# Altium footprint library WR-PHD_Pin Header.PcbLib: 232 footprints (part 7 of 15)
Each footprint in its own frame and in the unit in brackets; x right, y up, seen from the top. Pads: shape width x height; smd on the part's side, far side on the other; paste and mask are expansions set on the pad; w line width, h text height; cw(c..) or ccw(c..) is an arc to the next point about the centre after c.
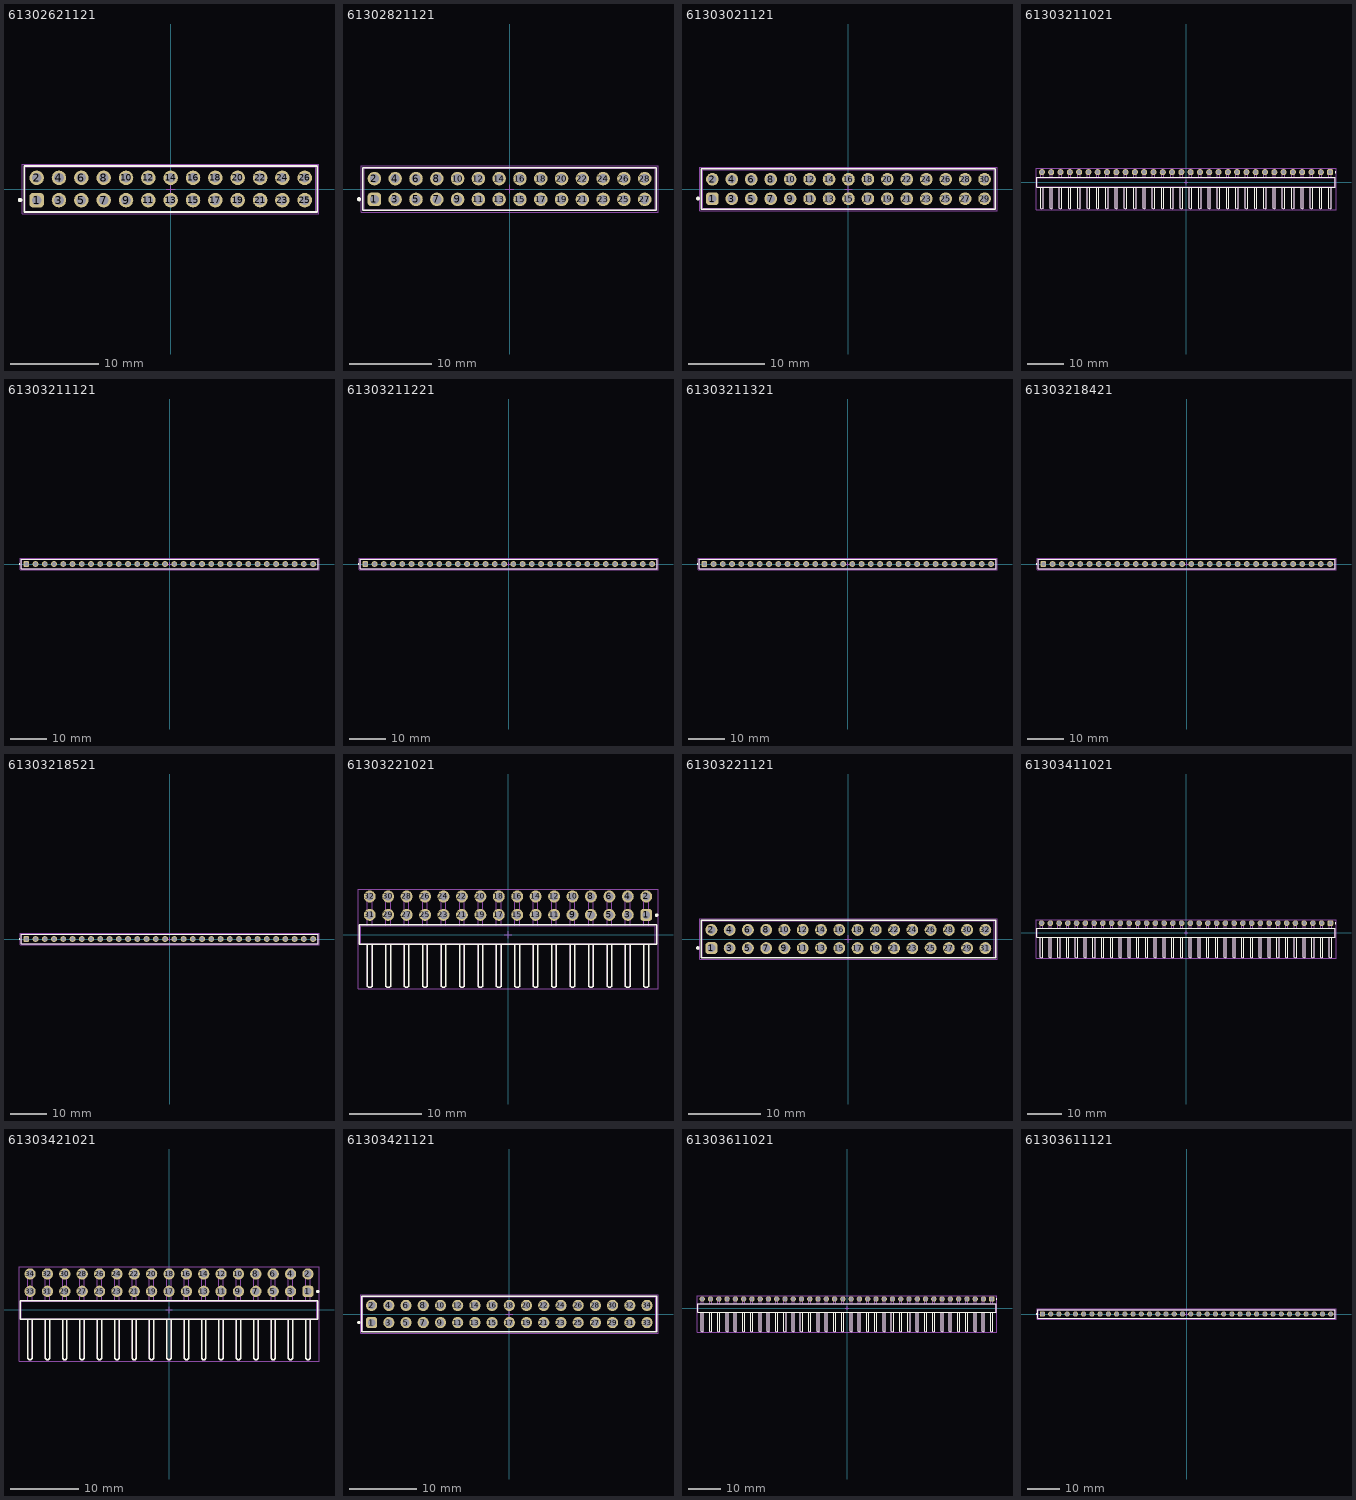
[diagram p6: the footprints below, top view; thin cyan lines are the x and y axes]

## 61302621121 [mm] "Pin Header, pitch 2.54 mm, THT, Vertical, dual row, 26p"
height 8.54
pads (26):
  rrect50% 1.65x1.65 hole 1.1: 1(-15.24,-1.27)
  round 1.65 hole 1.1: 2(-15.24,1.27) 3(-12.7,-1.27) 4(-12.7,1.27) 5(-10.16,-1.27) 6(-10.16,1.27) 7(-7.62,-1.27) 8(-7.62,1.27) 9(-5.08,-1.27) 10(-5.08,1.27) 11(-2.54,-1.27) 12(-2.54,1.27) 13(0,-1.27) 14(0,1.27) 15(2.54,-1.27) 16(2.54,1.27) 17(5.08,-1.27) 18(5.08,1.27) 19(7.62,-1.27) 20(7.62,1.27) 21(10.16,-1.27) 22(10.16,1.27) 23(12.7,-1.27) 24(12.7,1.27) 25(15.24,-1.27) 26(15.24,1.27)
Top Overlay:
  circle w0.25: c-17.12,-1.25 r0.125
  lines w0.2: -16.66,-2.615 16.66,-2.615 16.66,2.615 -16.66,2.615 -16.66,-2.615
Top Designator:
  text ".Designator" at -7.498,-0.5 h1.5
Top Component Outline:
  lines w0.1: -16.51,-2.54 16.51,-2.54 16.51,2.54 -16.51,2.54 -16.51,-2.54
Top Courtyard:
  lines w0.05: -16.86,-2.815 -16.86,2.815 16.86,2.815 16.86,-2.815 -16.86,-2.815
Top Component Center:
  lines w0.05: -0.5,0 0.5,0 ; 0,-0.5 0,0.5
3D body "61302621121.stp": height 8.59, standoff -2.95, extent -16.51,-2.54 16.51,2.54

## 61302821121 [mm] "Pin Header, pitch 2.54 mm, THT, Vertical, dual row, 28p"
height 8.54
pads (28):
  rrect50% 1.65x1.65 hole 1.1: 1(-16.51,-1.27)
  round 1.65 hole 1.1: 2(-16.51,1.27) 3(-13.97,-1.27) 4(-13.97,1.27) 5(-11.43,-1.27) 6(-11.43,1.27) 7(-8.89,-1.27) 8(-8.89,1.27) 9(-6.35,-1.27) 10(-6.35,1.27) 11(-3.81,-1.27) 12(-3.81,1.27) 13(-1.27,-1.27) 14(-1.27,1.27) 15(1.27,-1.27) 16(1.27,1.27) 17(3.81,-1.27) 18(3.81,1.27) 19(6.35,-1.27) 20(6.35,1.27) 21(8.89,-1.27) 22(8.89,1.27) 23(11.43,-1.27) 24(11.43,1.27) 25(13.97,-1.27) 26(13.97,1.27) 27(16.51,-1.27) 28(16.51,1.27)
Top Overlay:
  circle w0.25: c-18.39,-1.25 r0.125
  lines w0.2: -17.93,-2.615 -17.93,2.615 17.93,2.615 17.93,-2.615 -17.93,-2.615
Top Designator:
  text ".Designator" at -7.498,-0.5 h1.5
Top Component Outline:
  lines w0.1: -17.78,-2.54 -17.78,2.54 17.78,2.54 17.78,-2.54 -17.78,-2.54
Top Courtyard:
  lines w0.05: -18.13,-2.815 18.13,-2.815 18.13,2.815 -18.13,2.815 -18.13,-2.815
Top Component Center:
  lines w0.05: -0.5,0 0.5,0 ; 0,-0.5 0,0.5
3D body "61302821121.stp": height 8.59, standoff -2.95, extent -17.78,-2.54 17.78,2.54

## 61303021121 [mm] "Pin Header, pitch 2.54 mm, THT, Vertical, dual row, 30p"
height 8.54
pads (30):
  rrect50% 1.65x1.65 hole 1.1: 1(-17.78,-1.27)
  round 1.65 hole 1.1: 2(-17.78,1.27) 3(-15.24,-1.27) 4(-15.24,1.27) 5(-12.7,-1.27) 6(-12.7,1.27) 7(-10.16,-1.27) 8(-10.16,1.27) 9(-7.62,-1.27) 10(-7.62,1.27) 11(-5.08,-1.27) 12(-5.08,1.27) 13(-2.54,-1.27) 14(-2.54,1.27) 15(0,-1.27) 16(0,1.27) 17(2.54,-1.27) 18(2.54,1.27) 19(5.08,-1.27) 20(5.08,1.27) 21(7.62,-1.27) 22(7.62,1.27) 23(10.16,-1.27) 24(10.16,1.27) 25(12.7,-1.27) 26(12.7,1.27) 27(15.24,-1.27) 28(15.24,1.27) 29(17.78,-1.27) 30(17.78,1.27)
Top Overlay:
  circle w0.25: c-19.66,-1.25 r0.125
  lines w0.2: -19.2,-2.615 19.2,-2.615 19.2,2.615 -19.2,2.615 -19.2,-2.615
Top Designator:
  text ".Designator" at -7.498,-0.5 h1.5
Top Component Outline:
  lines w0.1: -19.05,-2.54 19.05,-2.54 19.05,2.54 -19.05,2.54 -19.05,-2.54
Top Courtyard:
  lines w0.05: -19.4,-2.815 -19.4,2.815 19.4,2.815 19.4,-2.815 -19.4,-2.815
Top Component Center:
  lines w0.05: -0.5,0 0.5,0 ; 0,-0.5 0,0.5
3D body "61303021121.stp": height 8.59, standoff -2.95, extent -19.05,-2.54 19.05,2.54

## 61303211021 [mm] "Pin Header, pitch 2.54 mm, THT, Angled, single row, 32p"
height 2.54
pads (32):
  rrect50% 1.65x1.65 hole 1.1: 1(39.37,2.77)
  round 1.65 hole 1.1: 2(36.83,2.77) 3(34.29,2.77) 4(31.75,2.77) 5(29.21,2.77) 6(26.67,2.77) 7(24.13,2.77) 8(21.59,2.77) 9(19.05,2.77) 10(16.51,2.77) 11(13.97,2.77) 12(11.43,2.77) 13(8.89,2.77) 14(6.35,2.77) 15(3.81,2.77) 16(1.27,2.77) 17(-1.27,2.77) 18(-3.81,2.77) 19(-6.35,2.77) 20(-8.89,2.77) 21(-11.43,2.77) 22(-13.97,2.77) 23(-16.51,2.77) 24(-19.05,2.77) 25(-21.59,2.77) 26(-24.13,2.77) 27(-26.67,2.77) 28(-29.21,2.77) 29(-31.75,2.77) 30(-34.29,2.77) 31(-36.83,2.77) 32(-39.37,2.77)
Top Overlay:
  circle w0.25: c40.85,2.75 r0.125
  lines w0.2: -39.69,-1.345 -39.69,-7.07 -39.37,-7.27 -39.05,-7.07 -39.05,-1.345 ; -37.15,-1.345 -37.15,-7.07 -36.83,-7.27 -36.51,-7.07 -36.51,-1.345 ; -34.61,-1.345 -34.61,-7.07 -34.29,-7.27 -33.97,-7.07 -33.97,-1.345 ; -32.07,-1.345 -32.07,-7.07 -31.75,-7.27 -31.43,-7.07 -31.43,-1.345 ; -29.53,-1.345 -29.53,-7.07 -29.21,-7.27 -28.89,-7.07 -28.89,-1.345 ; -26.99,-1.345 -26.99,-7.07 -26.67,-7.27 -26.35,-7.07 -26.35,-1.345 ; -24.45,-1.345 -24.45,-7.07 -24.13,-7.27 -23.81,-7.07 -23.81,-1.345 ; -21.91,-1.345 -21.91,-7.07 -21.59,-7.27 -21.27,-7.07 -21.27,-1.345 ; -19.37,-1.345 -19.37,-7.07 -19.05,-7.27 -18.73,-7.07 -18.73,-1.345 ; -16.83,-1.345 -16.83,-7.07 -16.51,-7.27 -16.19,-7.07 -16.19,-1.345 ; -14.29,-1.345 -14.29,-7.07 -13.97,-7.27 -13.65,-7.07 -13.65,-1.345 ; -11.75,-1.345 -11.75,-7.07 -11.43,-7.27 -11.11,-7.07 -11.11,-1.345 ; -9.21,-1.345 -9.21,-7.07 -8.89,-7.27 -8.57,-7.07 -8.57,-1.345 ; -6.67,-1.345 -6.67,-7.07 -6.35,-7.27 -6.03,-7.07 -6.03,-1.345 ; -4.13,-1.345 -4.13,-7.07 -3.81,-7.27 -3.49,-7.07 -3.49,-1.345 ; -1.59,-1.345 -1.59,-7.07 -1.27,-7.27 -0.95,-7.07 -0.95,-1.345 ; 0.95,-1.345 0.95,-7.07 1.27,-7.27 1.59,-7.07 1.59,-1.345 ; 3.49,-1.345 3.49,-7.07 3.81,-7.27 4.13,-7.07 4.13,-1.345 ; 6.03,-1.345 6.03,-7.07 6.35,-7.27 6.67,-7.07 6.67,-1.345 ; 8.57,-1.345 8.57,-7.07 8.89,-7.27 9.21,-7.07 9.21,-1.345 ; 11.11,-1.345 11.11,-7.07 11.43,-7.27 11.75,-7.07 11.75,-1.345 ; 13.65,-1.345 13.65,-7.07 13.97,-7.27 14.29,-7.07 14.29,-1.345 ; 16.19,-1.345 16.19,-7.07 16.51,-7.27 16.83,-7.07 16.83,-1.345 ; 18.73,-1.345 18.73,-7.07 19.05,-7.27 19.37,-7.07 19.37,-1.345 ; 21.27,-1.345 21.27,-7.07 21.59,-7.27 21.91,-7.07 21.91,-1.345 ; 23.81,-1.345 23.81,-7.07 24.13,-7.27 24.45,-7.07 24.45,-1.345 ; 26.35,-1.345 26.35,-7.07 26.67,-7.27 26.99,-7.07 26.99,-1.345 ; 28.89,-1.345 28.89,-7.07 29.21,-7.27 29.53,-7.07 29.53,-1.345 ; 31.43,-1.345 31.43,-7.07 31.75,-7.27 32.07,-7.07 32.07,-1.345 ; 33.97,-1.345 33.97,-7.07 34.29,-7.27 34.61,-7.07 34.61,-1.345 ; 36.51,-1.345 36.51,-7.07 36.83,-7.27 37.15,-7.07 37.15,-1.345 ; 39.05,-1.345 39.05,-7.07 39.37,-7.27 39.69,-7.07 39.69,-1.345 ; -40.79,-1.345 40.79,-1.345 40.79,1.345 -40.79,1.345 -40.79,-1.345
Top Designator:
  text ".Designator" at -7.498,-0.5 h1.5
Top Component Outline:
  drawing of 228 lines, arcs and shapes, not listed
Top Courtyard:
  lines w0.05: -40.99,-7.47 40.99,-7.47 40.99,3.795 -40.99,3.795 -40.99,-7.47
Top Component Center:
  lines w0.05: -0.5,0 0.5,0 ; 0,-0.5 0,0.5
3D body "61303211021.stp": height 2.58, standoff -2.96, extent -40.64,-7.27 40.64,3.09

## 61303211121 [mm] "Pin Header, pitch 2.54 mm, THT, Vertical, single row, 32p"
height 8.54
pads (32):
  rrect50% 1.6x1.6 hole 1.1: 1(-39.37,0)
  round 1.6 hole 1.1: 2(-36.83,0) 3(-34.29,0) 4(-31.75,0) 5(-29.21,0) 6(-26.67,0) 7(-24.13,0) 8(-21.59,0) 9(-19.05,0) 10(-16.51,0) 11(-13.97,0) 12(-11.43,0) 13(-8.89,0) 14(-6.35,0) 15(-3.81,0) 16(-1.27,0) 17(1.27,0) 18(3.81,0) 19(6.35,0) 20(8.89,0) 21(11.43,0) 22(13.97,0) 23(16.51,0) 24(19.05,0) 25(21.59,0) 26(24.13,0) 27(26.67,0) 28(29.21,0) 29(31.75,0) 30(34.29,0) 31(36.83,0) 32(39.37,0)
Top Overlay:
  circle w0.25: c-41.24,0 r0.125
  lines w0.2: -40.79,-1.345 40.79,-1.345 40.79,1.345 -40.79,1.345 -40.79,-1.345
Top Designator:
  text ".Designator" at -7.498,-0.5 h1.5
Top Component Outline:
  lines w0.1: -40.64,-1.27 40.64,-1.27 40.64,1.27 -40.64,1.27 -40.64,-1.27
Top Courtyard:
  lines w0.05: -40.99,-1.545 -40.99,1.545 40.99,1.545 40.99,-1.545 -40.99,-1.545
Top Component Center:
  lines w0.05: -0.5,0 0.5,0 ; 0,-0.5 0,0.5
3D body "61303211121.stp": height 8.57, standoff -2.97, extent -40.64,-1.27 40.64,1.27

## 61303211221 [mm] "Pin Header, pitch 2.54 mm, THT, Vertical, single row, 32p"
height 18.24
pads (32):
  rrect50% 1.6x1.6 hole 1.1: 1(-39.37,0)
  round 1.6 hole 1.1: 2(-36.83,0) 3(-34.29,0) 4(-31.75,0) 5(-29.21,0) 6(-26.67,0) 7(-24.13,0) 8(-21.59,0) 9(-19.05,0) 10(-16.51,0) 11(-13.97,0) 12(-11.43,0) 13(-8.89,0) 14(-6.35,0) 15(-3.81,0) 16(-1.27,0) 17(1.27,0) 18(3.81,0) 19(6.35,0) 20(8.89,0) 21(11.43,0) 22(13.97,0) 23(16.51,0) 24(19.05,0) 25(21.59,0) 26(24.13,0) 27(26.67,0) 28(29.21,0) 29(31.75,0) 30(34.29,0) 31(36.83,0) 32(39.37,0)
Top Overlay:
  circle w0.25: c-41.25,0 r0.125
  lines w0.2: -40.79,-1.345 -40.79,1.345 40.79,1.345 40.79,-1.345 -40.79,-1.345
Top Designator:
  text ".Designator" at -7.498,-0.5 h1.5
Top Component Outline:
  lines w0.1: -40.64,-1.27 -40.64,1.27 40.64,1.27 40.64,-1.27 -40.64,-1.27
Top Courtyard:
  lines w0.05: -40.99,-1.545 -40.99,1.545 40.99,1.545 40.99,-1.545 -40.99,-1.545
Top Component Center:
  lines w0.05: -0.5,0 0.5,0 ; 0,-0.5 0,0.5
3D body "61303211221.stp": height 18.31, standoff -2.93, extent -40.64,-1.27 40.64,1.27

## 61303211321 [mm] "Pin Header, pitch 2.54 mm, THT, Vertical, single row, 32p"
height 33.48
pads (32):
  rrect50% 1.6x1.6 hole 1.1: 1(-39.37,0)
  round 1.6 hole 1.1: 2(-36.83,0) 3(-34.29,0) 4(-31.75,0) 5(-29.21,0) 6(-26.67,0) 7(-24.13,0) 8(-21.59,0) 9(-19.05,0) 10(-16.51,0) 11(-13.97,0) 12(-11.43,0) 13(-8.89,0) 14(-6.35,0) 15(-3.81,0) 16(-1.27,0) 17(1.27,0) 18(3.81,0) 19(6.35,0) 20(8.89,0) 21(11.43,0) 22(13.97,0) 23(16.51,0) 24(19.05,0) 25(21.59,0) 26(24.13,0) 27(26.67,0) 28(29.21,0) 29(31.75,0) 30(34.29,0) 31(36.83,0) 32(39.37,0)
Top Overlay:
  circle w0.25: c-41.25,0 r0.125
  lines w0.2: -40.79,-1.345 -40.79,1.345 40.79,1.345 40.79,-1.345 -40.79,-1.345
Top Designator:
  text ".Designator" at -7.498,-0.5 h1.5
Top Component Outline:
  lines w0.1: -40.64,-1.27 -40.64,1.27 40.64,1.27 40.64,-1.27 -40.64,-1.27
Top Courtyard:
  lines w0.05: -40.99,-1.545 -40.99,1.545 40.99,1.545 40.99,-1.545 -40.99,-1.545
Top Component Center:
  lines w0.05: -0.5,0 0.5,0 ; 0,-0.5 0,0.5
3D body "61303211321.stp": height 33.54, standoff -2.94, extent -40.64,-1.27 40.64,1.27

## 61303218421 [mm] "Pin Header, pitch 2.54 mm, THT, Vertical, single row, 32p"
height 21.24
pads (32):
  rrect50% 1.6x1.6 hole 1.1: 1(-39.37,0)
  round 1.6 hole 1.1: 2(-36.83,0) 3(-34.29,0) 4(-31.75,0) 5(-29.21,0) 6(-26.67,0) 7(-24.13,0) 8(-21.59,0) 9(-19.05,0) 10(-16.51,0) 11(-13.97,0) 12(-11.43,0) 13(-8.89,0) 14(-6.35,0) 15(-3.81,0) 16(-1.27,0) 17(1.27,0) 18(3.81,0) 19(6.35,0) 20(8.89,0) 21(11.43,0) 22(13.97,0) 23(16.51,0) 24(19.05,0) 25(21.59,0) 26(24.13,0) 27(26.67,0) 28(29.21,0) 29(31.75,0) 30(34.29,0) 31(36.83,0) 32(39.37,0)
Top Overlay:
  circle w0.25: c-41.25,0 r0.125
  lines w0.2: -40.79,-1.345 -40.79,1.345 40.79,1.345 40.79,-1.345 -40.79,-1.345
Top Designator:
  text ".Designator" at -7.498,-0.5 h1.5
Top Component Outline:
  lines w0.1: -40.64,-1.27 -40.64,1.27 40.64,1.27 40.64,-1.27 -40.64,-1.27
Top Courtyard:
  lines w0.05: -40.99,-1.545 -40.99,1.545 40.99,1.545 40.99,-1.545 -40.99,-1.545
Top Component Center:
  lines w0.05: -0.5,0 0.5,0 ; 0,-0.5 0,0.5
3D body "61303218421.stp": height 18.31, standoff -5.93, extent -40.64,-1.27 40.64,1.27

## 61303218521 [mm] "Pin Header, pitch 2.54 mm, THT, Vertical, single row, 32p"
height 36.48
pads (32):
  rrect50% 1.6x1.6 hole 1.1: 1(-39.37,0)
  round 1.6 hole 1.1: 2(-36.83,0) 3(-34.29,0) 4(-31.75,0) 5(-29.21,0) 6(-26.67,0) 7(-24.13,0) 8(-21.59,0) 9(-19.05,0) 10(-16.51,0) 11(-13.97,0) 12(-11.43,0) 13(-8.89,0) 14(-6.35,0) 15(-3.81,0) 16(-1.27,0) 17(1.27,0) 18(3.81,0) 19(6.35,0) 20(8.89,0) 21(11.43,0) 22(13.97,0) 23(16.51,0) 24(19.05,0) 25(21.59,0) 26(24.13,0) 27(26.67,0) 28(29.21,0) 29(31.75,0) 30(34.29,0) 31(36.83,0) 32(39.37,0)
Top Overlay:
  circle w0.25: c-41.25,0 r0.125
  lines w0.2: -40.79,-1.345 40.79,-1.345 40.79,1.345 -40.79,1.345 -40.79,-1.345
Top Designator:
  text ".Designator" at -7.498,-0.5 h1.5
Top Component Outline:
  lines w0.1: -40.64,-1.27 40.64,-1.27 40.64,1.27 -40.64,1.27 -40.64,-1.27
Top Courtyard:
  lines w0.05: -40.99,-1.545 40.99,-1.545 40.99,1.545 -40.99,1.545 -40.99,-1.545
Top Component Center:
  lines w0.05: -0.5,0 0.5,0 ; 0,-0.5 0,0.5
3D body "61303218521.stp": height 33.54, standoff -5.94, extent -40.64,-1.27 40.64,1.27

## 61303221021 [mm] "Pin Header, pitch 2.54 mm, THT, Angled, dual row, 32p"
height 5.08
pads (32):
  rrect50% 1.65x1.65 hole 1.1: 1(19.05,2.73)
  round 1.65 hole 1.1: 2(19.05,5.27) 3(16.51,2.73) 4(16.51,5.27) 5(13.97,2.73) 6(13.97,5.27) 7(11.43,2.73) 8(11.43,5.27) 9(8.89,2.73) 10(8.89,5.27) 11(6.35,2.73) 12(6.35,5.27) 13(3.81,2.73) 14(3.81,5.27) 15(1.27,2.73) 16(1.27,5.27) 17(-1.27,2.73) 18(-1.27,5.27) 19(-3.81,2.73) 20(-3.81,5.27) 21(-6.35,2.73) 22(-6.35,5.27) 23(-8.89,2.73) 24(-8.89,5.27) 25(-11.43,2.73) 26(-11.43,5.27) 27(-13.97,2.73) 28(-13.97,5.27) 29(-16.51,2.73) 30(-16.51,5.27) 31(-19.05,2.73) 32(-19.05,5.27)
Top Overlay:
  circle w0.25: c20.48,2.7 r0.125
  lines w0.2: -19.37,-1.345 -19.37,-7.07 -19.17,-7.27 -18.93,-7.27 -18.73,-7.07 -18.73,-1.345 ; -16.83,-1.345 -16.83,-7.07 -16.63,-7.27 -16.39,-7.27 -16.19,-7.07 -16.19,-1.345 ; -14.29,-1.345 -14.29,-7.07 -14.09,-7.27 -13.85,-7.27 -13.65,-7.07 -13.65,-1.345 ; -11.75,-1.345 -11.75,-7.07 -11.55,-7.27 -11.31,-7.27 -11.11,-7.07 -11.11,-1.345 ; -9.21,-1.345 -9.21,-7.07 -9.01,-7.27 -8.77,-7.27 -8.57,-7.07 -8.57,-1.345 ; -6.67,-1.345 -6.67,-7.07 -6.47,-7.27 -6.23,-7.27 -6.03,-7.07 -6.03,-1.345 ; -4.13,-1.345 -4.13,-7.07 -3.93,-7.27 -3.69,-7.27 -3.49,-7.07 -3.49,-1.345 ; -1.59,-1.345 -1.59,-7.07 -1.39,-7.27 -1.15,-7.27 -0.95,-7.07 -0.95,-1.345 ; 0.95,-1.345 0.95,-7.07 1.15,-7.27 1.39,-7.27 1.59,-7.07 1.59,-1.345 ; 3.49,-1.345 3.49,-7.07 3.69,-7.27 3.93,-7.27 4.13,-7.07 4.13,-1.345 ; 6.03,-1.345 6.03,-7.07 6.23,-7.27 6.47,-7.27 6.67,-7.07 6.67,-1.345 ; 8.57,-1.345 8.57,-7.07 8.77,-7.27 9.01,-7.27 9.21,-7.07 9.21,-1.345 ; 11.11,-1.345 11.11,-7.07 11.31,-7.27 11.55,-7.27 11.75,-7.07 11.75,-1.345 ; 13.65,-1.345 13.65,-7.07 13.85,-7.27 14.09,-7.27 14.29,-7.07 14.29,-1.345 ; 16.19,-1.345 16.19,-7.07 16.39,-7.27 16.63,-7.27 16.83,-7.07 16.83,-1.345 ; 18.73,-1.345 18.73,-7.07 18.93,-7.27 19.17,-7.27 19.37,-7.07 19.37,-1.345 ; -20.47,-1.345 20.47,-1.345 20.47,1.345 -20.47,1.345 -20.47,-1.345
Top Designator:
  text ".Designator" at -7.498,-0.5 h1.5
Top Component Outline:
  lines w0.1: -19.37,-1.27 -19.37,-7.07 -19.17,-7.27 -18.93,-7.27 -18.73,-7.07 -18.73,-1.27 ; -19.37,1.27 -19.37,5.63 -18.73,5.63 -18.73,1.27 ; -19.37,3.09 -18.73,3.09 ; -16.83,-1.27 -16.83,-7.07 -16.63,-7.27 -16.39,-7.27 -16.19,-7.07 -16.19,-1.27 ; -16.83,1.27 -16.83,5.63 -16.19,5.63 -16.19,1.27 ; -16.83,3.09 -16.19,3.09 ; -14.29,-1.27 -14.29,-7.07 -14.09,-7.27 -13.85,-7.27 -13.65,-7.07 -13.65,-1.27 ; -14.29,1.27 -14.29,5.63 -13.65,5.63 -13.65,1.27 ; -14.29,3.09 -13.65,3.09 ; -11.75,-1.27 -11.75,-7.07 -11.55,-7.27 -11.31,-7.27 -11.11,-7.07 -11.11,-1.27 ; -11.75,1.27 -11.75,5.63 -11.11,5.63 -11.11,1.27 ; -11.75,3.09 -11.11,3.09 ; -9.21,-1.27 -9.21,-7.07 -9.01,-7.27 -8.77,-7.27 -8.57,-7.07 -8.57,-1.27 ; -9.21,1.27 -9.21,5.63 -8.57,5.63 -8.57,1.27 ; -9.21,3.09 -8.57,3.09 ; -6.67,-1.27 -6.67,-7.07 -6.47,-7.27 -6.23,-7.27 -6.03,-7.07 -6.03,-1.27 ; -6.67,1.27 -6.67,5.63 -6.03,5.63 -6.03,1.27 ; -6.67,3.09 -6.03,3.09 ; -4.13,-1.27 -4.13,-7.07 -3.93,-7.27 -3.69,-7.27 -3.49,-7.07 -3.49,-1.27 ; -4.13,1.27 -4.13,5.63 -3.49,5.63 -3.49,1.27 ; -1.59,-1.27 -1.59,-7.07 -1.39,-7.27 -1.15,-7.27 -0.95,-7.07 -0.95,-1.27 ; -1.59,1.27 -1.59,5.63 -0.95,5.63 -0.95,1.27 ; -1.59,3.09 -0.95,3.09 ; 0.95,-1.27 0.95,-7.07 1.15,-7.27 1.39,-7.27 1.59,-7.07 1.59,-1.27 ; 0.95,1.27 0.95,5.63 1.59,5.63 1.59,1.27 ; 0.95,3.09 1.59,3.09 ; 3.49,-1.27 3.49,-7.07 3.69,-7.27 3.93,-7.27 4.13,-7.07 4.13,-1.27 ; 3.49,1.27 3.49,5.63 4.13,5.63 4.13,1.27 ; 3.49,3.09 4.13,3.09 ; 6.03,-1.27 6.03,-7.07 6.23,-7.27 6.47,-7.27 6.67,-7.07 6.67,-1.27 ; 6.03,1.27 6.03,5.63 6.67,5.63 6.67,1.27 ; 6.03,3.09 6.67,3.09 ; 8.57,-1.27 8.57,-7.07 8.77,-7.27 9.01,-7.27 9.21,-7.07 9.21,-1.27 ; 8.57,1.27 8.57,5.63 9.21,5.63 9.21,1.27 ; 8.57,3.09 9.21,3.09 ; 11.11,-1.27 11.11,-7.07 11.31,-7.27 11.55,-7.27 11.75,-7.07 11.75,-1.27 ; 11.11,1.27 11.11,5.63 11.75,5.63 11.75,1.27 ; 11.11,3.09 11.75,3.09 ; 13.65,-1.27 13.65,-7.07 13.85,-7.27 14.09,-7.27 14.29,-7.07 14.29,-1.27 ; 13.65,1.27 13.65,5.63 14.29,5.63 14.29,1.27 ; 13.65,3.09 14.29,3.09 ; 16.19,-1.27 16.19,-7.07 16.39,-7.27 16.63,-7.27 16.83,-7.07 16.83,-1.27 ; 16.19,1.27 16.19,5.63 16.83,5.63 16.83,1.27 ; 16.19,3.09 16.83,3.09 ; 18.73,-1.27 18.73,-7.07 18.93,-7.27 19.17,-7.27 19.37,-7.07 19.37,-1.27 ; 18.73,1.27 18.73,5.63 19.37,5.63 19.37,1.27 ; 18.73,3.09 19.37,3.09 ; -20.32,-1.27 -20.32,1.27 20.32,1.27 20.32,-1.27 -20.32,-1.27 ; -4.13,3.09 -3.49,3.09 -4.13,3.09
Top Courtyard:
  lines w0.05: -20.67,-7.47 20.67,-7.47 20.67,6.295 -20.67,6.295 -20.67,-7.47
Top Component Center:
  lines w0.05: -0.5,0 0.5,0 ; 0,-0.5 0,0.5
3D body "61303221021.stp": height 5.12, standoff -2.96, extent -20.32,-7.27 20.32,5.63

## 61303221121 [mm] "Pin Header, pitch 2.54 mm, THT, Vertical, dual row, 32p"
height 8.54
pads (32):
  rrect50% 1.65x1.65 hole 1.1: 1(-19.05,-1.27)
  round 1.65 hole 1.1: 2(-19.05,1.27) 3(-16.51,-1.27) 4(-16.51,1.27) 5(-13.97,-1.27) 6(-13.97,1.27) 7(-11.43,-1.27) 8(-11.43,1.27) 9(-8.89,-1.27) 10(-8.89,1.27) 11(-6.35,-1.27) 12(-6.35,1.27) 13(-3.81,-1.27) 14(-3.81,1.27) 15(-1.27,-1.27) 16(-1.27,1.27) 17(1.27,-1.27) 18(1.27,1.27) 19(3.81,-1.27) 20(3.81,1.27) 21(6.35,-1.27) 22(6.35,1.27) 23(8.89,-1.27) 24(8.89,1.27) 25(11.43,-1.27) 26(11.43,1.27) 27(13.97,-1.27) 28(13.97,1.27) 29(16.51,-1.27) 30(16.51,1.27) 31(19.05,-1.27) 32(19.05,1.27)
Top Overlay:
  circle w0.25: c-20.93,-1.25 r0.125
  lines w0.2: -20.47,-2.615 20.47,-2.615 20.47,2.615 -20.47,2.615 -20.47,-2.615
Top Designator:
  text ".Designator" at -7.498,-0.5 h1.5
Top Component Outline:
  lines w0.1: -20.32,-2.54 20.32,-2.54 20.32,2.54 -20.32,2.54 -20.32,-2.54
Top Courtyard:
  lines w0.05: -20.67,-2.815 -20.67,2.815 20.67,2.815 20.67,-2.815 -20.67,-2.815
Top Component Center:
  lines w0.05: -0.5,0 0.5,0 ; 0,-0.5 0,0.5
3D body "61303221121.stp": height 8.59, standoff -2.95, extent -20.32,-2.54 20.32,2.54

## 61303411021 [mm] "Pin Header, pitch 2.54 mm, THT, Angled, single row, 34p"
height 2.54
pads (34):
  rrect50% 1.65x1.65 hole 1.1: 1(41.91,2.77)
  round 1.65 hole 1.1: 2(39.37,2.77) 3(36.83,2.77) 4(34.29,2.77) 5(31.75,2.77) 6(29.21,2.77) 7(26.67,2.77) 8(24.13,2.77) 9(21.59,2.77) 10(19.05,2.77) 11(16.51,2.77) 12(13.97,2.77) 13(11.43,2.77) 14(8.89,2.77) 15(6.35,2.77) 16(3.81,2.77) 17(1.27,2.77) 18(-1.27,2.77) 19(-3.81,2.77) 20(-6.35,2.77) 21(-8.89,2.77) 22(-11.43,2.77) 23(-13.97,2.77) 24(-16.51,2.77) 25(-19.05,2.77) 26(-21.59,2.77) 27(-24.13,2.77) 28(-26.67,2.77) 29(-29.21,2.77) 30(-31.75,2.77) 31(-34.29,2.77) 32(-36.83,2.77) 33(-39.37,2.77) 34(-41.91,2.77)
Top Overlay:
  circle w0.25: c43.39,2.75 r0.125
  lines w0.2: -42.23,-1.345 -42.23,-7.07 -41.91,-7.27 -41.59,-7.07 -41.59,-1.345 ; -39.69,-1.345 -39.69,-7.07 -39.37,-7.27 -39.05,-7.07 -39.05,-1.345 ; -37.15,-1.345 -37.15,-7.07 -36.83,-7.27 -36.51,-7.07 -36.51,-1.345 ; -34.61,-1.345 -34.61,-7.07 -34.29,-7.27 -33.97,-7.07 -33.97,-1.345 ; -32.07,-1.345 -32.07,-7.07 -31.75,-7.27 -31.43,-7.07 -31.43,-1.345 ; -29.53,-1.345 -29.53,-7.07 -29.21,-7.27 -28.89,-7.07 -28.89,-1.345 ; -26.99,-1.345 -26.99,-7.07 -26.67,-7.27 -26.35,-7.07 -26.35,-1.345 ; -24.45,-1.345 -24.45,-7.07 -24.13,-7.27 -23.81,-7.07 -23.81,-1.345 ; -21.91,-1.345 -21.91,-7.07 -21.59,-7.27 -21.27,-7.07 -21.27,-1.345 ; -19.37,-1.345 -19.37,-7.07 -19.05,-7.27 -18.73,-7.07 -18.73,-1.345 ; -16.83,-1.345 -16.83,-7.07 -16.51,-7.27 -16.19,-7.07 -16.19,-1.345 ; -14.29,-1.345 -14.29,-7.07 -13.97,-7.27 -13.65,-7.07 -13.65,-1.345 ; -11.75,-1.345 -11.75,-7.07 -11.43,-7.27 -11.11,-7.07 -11.11,-1.345 ; -9.21,-1.345 -9.21,-7.07 -8.89,-7.27 -8.57,-7.07 -8.57,-1.345 ; -6.67,-1.345 -6.67,-7.07 -6.35,-7.27 -6.03,-7.07 -6.03,-1.345 ; -4.13,-1.345 -4.13,-7.07 -3.81,-7.27 -3.49,-7.07 -3.49,-1.345 ; -1.59,-1.345 -1.59,-7.07 -1.27,-7.27 -0.95,-7.07 -0.95,-1.345 ; 0.95,-1.345 0.95,-7.07 1.27,-7.27 1.59,-7.07 1.59,-1.345 ; 3.49,-1.345 3.49,-7.07 3.81,-7.27 4.13,-7.07 4.13,-1.345 ; 6.03,-1.345 6.03,-7.07 6.35,-7.27 6.67,-7.07 6.67,-1.345 ; 8.57,-1.345 8.57,-7.07 8.89,-7.27 9.21,-7.07 9.21,-1.345 ; 11.11,-1.345 11.11,-7.07 11.43,-7.27 11.75,-7.07 11.75,-1.345 ; 13.65,-1.345 13.65,-7.07 13.97,-7.27 14.29,-7.07 14.29,-1.345 ; 16.19,-1.345 16.19,-7.07 16.51,-7.27 16.83,-7.07 16.83,-1.345 ; 18.73,-1.345 18.73,-7.07 19.05,-7.27 19.37,-7.07 19.37,-1.345 ; 21.27,-1.345 21.27,-7.07 21.59,-7.27 21.91,-7.07 21.91,-1.345 ; 23.81,-1.345 23.81,-7.07 24.13,-7.27 24.45,-7.07 24.45,-1.345 ; 26.35,-1.345 26.35,-7.07 26.67,-7.27 26.99,-7.07 26.99,-1.345 ; 28.89,-1.345 28.89,-7.07 29.21,-7.27 29.53,-7.07 29.53,-1.345 ; 31.43,-1.345 31.43,-7.07 31.75,-7.27 32.07,-7.07 32.07,-1.345 ; 33.97,-1.345 33.97,-7.07 34.29,-7.27 34.61,-7.07 34.61,-1.345 ; 36.51,-1.345 36.51,-7.07 36.83,-7.27 37.15,-7.07 37.15,-1.345 ; 39.05,-1.345 39.05,-7.07 39.37,-7.27 39.69,-7.07 39.69,-1.345 ; 41.59,-1.345 41.59,-7.07 41.91,-7.27 42.23,-7.07 42.23,-1.345 ; -43.33,-1.345 43.33,-1.345 43.33,1.345 -43.33,1.345 -43.33,-1.345
Top Designator:
  text ".Designator" at -7.498,-0.5 h1.5
Top Component Outline:
  drawing of 242 lines, arcs and shapes, not listed
Top Courtyard:
  lines w0.05: -43.53,-7.47 43.53,-7.47 43.53,3.795 -43.53,3.795 -43.53,-7.47
Top Component Center:
  lines w0.05: -0.5,0 0.5,0 ; 0,-0.5 0,0.5
3D body "61303411021.stp": height 2.58, standoff -2.96, extent -43.18,-7.27 43.18,3.09

## 61303421021 [mm] "Pin Header, pitch 2.54 mm, THT, Angled, dual row, 34p"
height 5.08
pads (34):
  rrect50% 1.65x1.65 hole 1.1: 1(20.32,2.73)
  round 1.65 hole 1.1: 2(20.32,5.27) 3(17.78,2.73) 4(17.78,5.27) 5(15.24,2.73) 6(15.24,5.27) 7(12.7,2.73) 8(12.7,5.27) 9(10.16,2.73) 10(10.16,5.27) 11(7.62,2.73) 12(7.62,5.27) 13(5.08,2.73) 14(5.08,5.27) 15(2.54,2.73) 16(2.54,5.27) 17(0,2.73) 18(0,5.27) 19(-2.54,2.73) 20(-2.54,5.27) 21(-5.08,2.73) 22(-5.08,5.27) 23(-7.62,2.73) 24(-7.62,5.27) 25(-10.16,2.73) 26(-10.16,5.27) 27(-12.7,2.73) 28(-12.7,5.27) 29(-15.24,2.73) 30(-15.24,5.27) 31(-17.78,2.73) 32(-17.78,5.27) 33(-20.32,2.73) 34(-20.32,5.27)
Top Overlay:
  circle w0.25: c21.75,2.7 r0.125
  lines w0.2: -20.64,-1.345 -20.64,-7.07 -20.44,-7.27 -20.2,-7.27 -20,-7.07 -20,-1.345 ; -18.1,-1.345 -18.1,-7.07 -17.9,-7.27 -17.66,-7.27 -17.46,-7.07 -17.46,-1.345 ; -15.56,-1.345 -15.56,-7.07 -15.36,-7.27 -15.12,-7.27 -14.92,-7.07 -14.92,-1.345 ; -13.02,-1.345 -13.02,-7.07 -12.82,-7.27 -12.58,-7.27 -12.38,-7.07 -12.38,-1.345 ; -10.48,-1.345 -10.48,-7.07 -10.28,-7.27 -10.04,-7.27 -9.84,-7.07 -9.84,-1.345 ; -7.94,-1.345 -7.94,-7.07 -7.74,-7.27 -7.5,-7.27 -7.3,-7.07 -7.3,-1.345 ; -5.4,-1.345 -5.4,-7.07 -5.2,-7.27 -4.96,-7.27 -4.76,-7.07 -4.76,-1.345 ; -2.86,-1.345 -2.86,-7.07 -2.66,-7.27 -2.42,-7.27 -2.22,-7.07 -2.22,-1.345 ; -0.32,-1.345 -0.32,-7.07 -0.12,-7.27 0.12,-7.27 0.32,-7.07 0.32,-1.345 ; 2.22,-1.345 2.22,-7.07 2.42,-7.27 2.66,-7.27 2.86,-7.07 2.86,-1.345 ; 4.76,-1.345 4.76,-7.07 4.96,-7.27 5.2,-7.27 5.4,-7.07 5.4,-1.345 ; 7.3,-1.345 7.3,-7.07 7.5,-7.27 7.74,-7.27 7.94,-7.07 7.94,-1.345 ; 9.84,-1.345 9.84,-7.07 10.04,-7.27 10.28,-7.27 10.48,-7.07 10.48,-1.345 ; 12.38,-1.345 12.38,-7.07 12.58,-7.27 12.82,-7.27 13.02,-7.07 13.02,-1.345 ; 14.92,-1.345 14.92,-7.07 15.12,-7.27 15.36,-7.27 15.56,-7.07 15.56,-1.345 ; 17.46,-1.345 17.46,-7.07 17.66,-7.27 17.9,-7.27 18.1,-7.07 18.1,-1.345 ; 20,-1.345 20,-7.07 20.2,-7.27 20.44,-7.27 20.64,-7.07 20.64,-1.345 ; -21.74,-1.345 -21.74,1.345 21.74,1.345 21.74,-1.345 -21.74,-1.345
Top Designator:
  text ".Designator" at -7.498,-0.5 h1.5
Top Component Outline:
  drawing of 158 lines, arcs and shapes, not listed
Top Courtyard:
  lines w0.05: -21.94,-7.47 -21.94,6.295 21.94,6.295 21.94,-7.47 -21.94,-7.47
Top Component Center:
  lines w0.05: -0.5,0 0.5,0 ; 0,-0.5 0,0.5
3D body "61303421021.stp": height 5.12, standoff -2.96, extent -21.59,-7.27 21.59,5.63

## 61303421121 [mm] "Pin Header, pitch 2.54 mm, THT, Vertical, dual row, 34p"
height 8.54
pads (34):
  rrect50% 1.65x1.65 hole 1.1: 1(-20.32,-1.27)
  round 1.65 hole 1.1: 2(-20.32,1.27) 3(-17.78,-1.27) 4(-17.78,1.27) 5(-15.24,-1.27) 6(-15.24,1.27) 7(-12.7,-1.27) 8(-12.7,1.27) 9(-10.16,-1.27) 10(-10.16,1.27) 11(-7.62,-1.27) 12(-7.62,1.27) 13(-5.08,-1.27) 14(-5.08,1.27) 15(-2.54,-1.27) 16(-2.54,1.27) 17(0,-1.27) 18(0,1.27) 19(2.54,-1.27) 20(2.54,1.27) 21(5.08,-1.27) 22(5.08,1.27) 23(7.62,-1.27) 24(7.62,1.27) 25(10.16,-1.27) 26(10.16,1.27) 27(12.7,-1.27) 28(12.7,1.27) 29(15.24,-1.27) 30(15.24,1.27) 31(17.78,-1.27) 32(17.78,1.27) 33(20.32,-1.27) 34(20.32,1.27)
Top Overlay:
  circle w0.25: c-22.2,-1.25 r0.125
  lines w0.2: -21.74,-2.615 21.74,-2.615 21.74,2.615 -21.74,2.615 -21.74,-2.615
Top Designator:
  text ".Designator" at -7.498,-0.5 h1.5
Top Component Outline:
  lines w0.1: -21.59,-2.54 21.59,-2.54 21.59,2.54 -21.59,2.54 -21.59,-2.54
Top Courtyard:
  lines w0.05: -21.94,-2.815 -21.94,2.815 21.94,2.815 21.94,-2.815 -21.94,-2.815
Top Component Center:
  lines w0.05: -0.5,0 0.5,0 ; 0,-0.5 0,0.5
3D body "61303421121.stp": height 8.59, standoff -2.95, extent -21.59,-2.54 21.59,2.54

## 61303611021 [mm] "Pin Header, pitch 2.54 mm, THT, Angled, single row, 36p"
height 2.54
pads (36):
  rrect50% 1.65x1.65 hole 1.1: 1(44.45,2.77)
  round 1.65 hole 1.1: 2(41.91,2.77) 3(39.37,2.77) 4(36.83,2.77) 5(34.29,2.77) 6(31.75,2.77) 7(29.21,2.77) 8(26.67,2.77) 9(24.13,2.77) 10(21.59,2.77) 11(19.05,2.77) 12(16.51,2.77) 13(13.97,2.77) 14(11.43,2.77) 15(8.89,2.77) 16(6.35,2.77) 17(3.81,2.77) 18(1.27,2.77) 19(-1.27,2.77) 20(-3.81,2.77) 21(-6.35,2.77) 22(-8.89,2.77) 23(-11.43,2.77) 24(-13.97,2.77) 25(-16.51,2.77) 26(-19.05,2.77) 27(-21.59,2.77) 28(-24.13,2.77) 29(-26.67,2.77) 30(-29.21,2.77) 31(-31.75,2.77) 32(-34.29,2.77) 33(-36.83,2.77) 34(-39.37,2.77) 35(-41.91,2.77) 36(-44.45,2.77)
Top Overlay:
  circle w0.25: c45.93,2.75 r0.125
  lines w0.2: -44.77,-1.345 -44.77,-7.07 -44.45,-7.27 -44.13,-7.07 -44.13,-1.345 ; -42.23,-1.345 -42.23,-7.07 -41.91,-7.27 -41.59,-7.07 -41.59,-1.345 ; -39.69,-1.345 -39.69,-7.07 -39.37,-7.27 -39.05,-7.07 -39.05,-1.345 ; -37.15,-1.345 -37.15,-7.07 -36.83,-7.27 -36.51,-7.07 -36.51,-1.345 ; -34.61,-1.345 -34.61,-7.07 -34.29,-7.27 -33.97,-7.07 -33.97,-1.345 ; -32.07,-1.345 -32.07,-7.07 -31.75,-7.27 -31.43,-7.07 -31.43,-1.345 ; -29.53,-1.345 -29.53,-7.07 -29.21,-7.27 -28.89,-7.07 -28.89,-1.345 ; -26.99,-1.345 -26.99,-7.07 -26.67,-7.27 -26.35,-7.07 -26.35,-1.345 ; -24.45,-1.345 -24.45,-7.07 -24.13,-7.27 -23.81,-7.07 -23.81,-1.345 ; -21.91,-1.345 -21.91,-7.07 -21.59,-7.27 -21.27,-7.07 -21.27,-1.345 ; -19.37,-1.345 -19.37,-7.07 -19.05,-7.27 -18.73,-7.07 -18.73,-1.345 ; -16.83,-1.345 -16.83,-7.07 -16.51,-7.27 -16.19,-7.07 -16.19,-1.345 ; -14.29,-1.345 -14.29,-7.07 -13.97,-7.27 -13.65,-7.07 -13.65,-1.345 ; -11.75,-1.345 -11.75,-7.07 -11.43,-7.27 -11.11,-7.07 -11.11,-1.345 ; -9.21,-1.345 -9.21,-7.07 -8.89,-7.27 -8.57,-7.07 -8.57,-1.345 ; -6.67,-1.345 -6.67,-7.07 -6.35,-7.27 -6.03,-7.07 -6.03,-1.345 ; -4.13,-1.345 -4.13,-7.07 -3.81,-7.27 -3.49,-7.07 -3.49,-1.345 ; -1.59,-1.345 -1.59,-7.07 -1.27,-7.27 -0.95,-7.07 -0.95,-1.345 ; 0.95,-1.345 0.95,-7.07 1.27,-7.27 1.59,-7.07 1.59,-1.345 ; 3.49,-1.345 3.49,-7.07 3.81,-7.27 4.13,-7.07 4.13,-1.345 ; 6.03,-1.345 6.03,-7.07 6.35,-7.27 6.67,-7.07 6.67,-1.345 ; 8.57,-1.345 8.57,-7.07 8.89,-7.27 9.21,-7.07 9.21,-1.345 ; 11.11,-1.345 11.11,-7.07 11.43,-7.27 11.75,-7.07 11.75,-1.345 ; 13.65,-1.345 13.65,-7.07 13.97,-7.27 14.29,-7.07 14.29,-1.345 ; 16.19,-1.345 16.19,-7.07 16.51,-7.27 16.83,-7.07 16.83,-1.345 ; 18.73,-1.345 18.73,-7.07 19.05,-7.27 19.37,-7.07 19.37,-1.345 ; 21.27,-1.345 21.27,-7.07 21.59,-7.27 21.91,-7.07 21.91,-1.345 ; 23.81,-1.345 23.81,-7.07 24.13,-7.27 24.45,-7.07 24.45,-1.345 ; 26.35,-1.345 26.35,-7.07 26.67,-7.27 26.99,-7.07 26.99,-1.345 ; 28.89,-1.345 28.89,-7.07 29.21,-7.27 29.53,-7.07 29.53,-1.345 ; 31.43,-1.345 31.43,-7.07 31.75,-7.27 32.07,-7.07 32.07,-1.345 ; 33.97,-1.345 33.97,-7.07 34.29,-7.27 34.61,-7.07 34.61,-1.345 ; 36.51,-1.345 36.51,-7.07 36.83,-7.27 37.15,-7.07 37.15,-1.345 ; 39.05,-1.345 39.05,-7.07 39.37,-7.27 39.69,-7.07 39.69,-1.345 ; 41.59,-1.345 41.59,-7.07 41.91,-7.27 42.23,-7.07 42.23,-1.345 ; 44.13,-1.345 44.13,-7.07 44.45,-7.27 44.77,-7.07 44.77,-1.345 ; -45.87,-1.345 -45.87,1.345 45.87,1.345 45.87,-1.345 -45.87,-1.345
Top Designator:
  text ".Designator" at -7.498,-0.5 h1.5
Top Component Outline:
  drawing of 256 lines, arcs and shapes, not listed
Top Courtyard:
  lines w0.05: -46.07,-7.47 -46.07,3.795 46.07,3.795 46.07,-7.47 -46.07,-7.47
Top Component Center:
  lines w0.05: -0.5,0 0.5,0 ; 0,-0.5 0,0.5
3D body "61303611021.stp": height 2.58, standoff -2.96, extent -45.72,-7.27 45.72,3.09

## 61303611121 [mm] "Pin Header, pitch 2.54 mm, THT, Vertical, single row, 36p"
height 8.54
pads (36):
  rrect50% 1.6x1.6 hole 1.1: 1(-44.45,0)
  round 1.6 hole 1.1: 2(-41.91,0) 3(-39.37,0) 4(-36.83,0) 5(-34.29,0) 6(-31.75,0) 7(-29.21,0) 8(-26.67,0) 9(-24.13,0) 10(-21.59,0) 11(-19.05,0) 12(-16.51,0) 13(-13.97,0) 14(-11.43,0) 15(-8.89,0) 16(-6.35,0) 17(-3.81,0) 18(-1.27,0) 19(1.27,0) 20(3.81,0) 21(6.35,0) 22(8.89,0) 23(11.43,0) 24(13.97,0) 25(16.51,0) 26(19.05,0) 27(21.59,0) 28(24.13,0) 29(26.67,0) 30(29.21,0) 31(31.75,0) 32(34.29,0) 33(36.83,0) 34(39.37,0) 35(41.91,0) 36(44.45,0)
Top Overlay:
  circle w0.25: c-46.32,0 r0.125
  lines w0.2: -45.87,-1.345 -45.87,1.345 45.87,1.345 45.87,-1.345 -45.87,-1.345
Top Designator:
  text ".Designator" at -7.498,-0.5 h1.5
Top Component Outline:
  lines w0.1: -45.72,-1.27 -45.72,1.27 45.72,1.27 45.72,-1.27 -45.72,-1.27
Top Courtyard:
  lines w0.05: -46.07,-1.545 46.07,-1.545 46.07,1.545 -46.07,1.545 -46.07,-1.545
Top Component Center:
  lines w0.05: -0.5,0 0.5,0 ; 0,-0.5 0,0.5
3D body "61303611121.stp": height 8.57, standoff -2.97, extent -45.72,-1.27 45.72,1.27